# EAGLE library part CAT6612 (library JKW_CHIP)
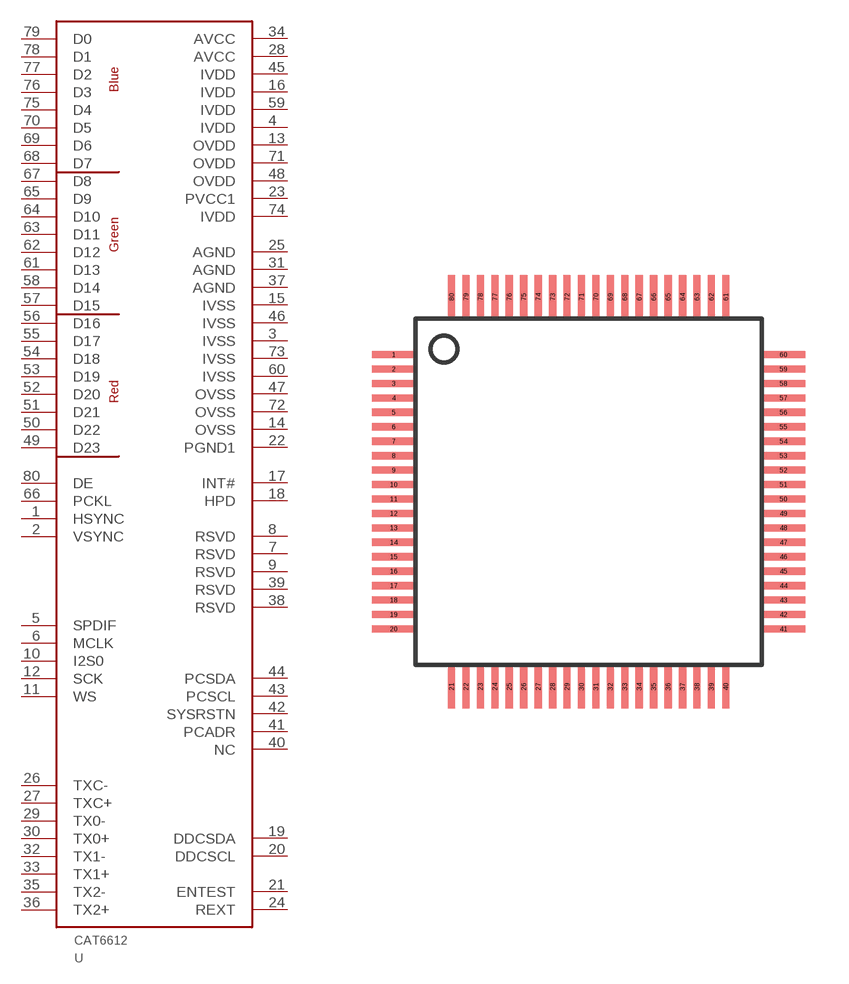
[diagram p8: symbol with the pads of LQFP-80; footprint LQFP-80]

Designator prefix -

## CAT6612  [LQFP-80]
1  HSYNC
2  VSYNC
3  IVSS
4  IVDD
5  SPDIF
6  MCLK
7  RSVD
8  RSVD
9  RSVD
10  I2S0
11  WS
12  SCK
13  OVDD
14  OVSS
15  IVSS
16  IVDD
17  INT#
18  HPD
19  DDCSDA
20  DDCSCL
21  ENTEST
22  PGND1
23  PVCC1
24  REXT
25  AGND
26  TXC-
27  TXC+
28  AVCC
29  TX0-
30  TX0+
31  AGND
32  TX1-
33  TX1+
34  AVCC
35  TX2-
36  TX2+
37  AGND
38  RSVD
39  RSVD
40  NC
41  PCADR
42  SYSRSTN
43  PCSCL
44  PCSDA
45  IVDD
46  IVSS
47  OVSS
48  OVDD
49  D23
50  D22
51  D21
52  D20
53  D19
54  D18
55  D17
56  D16
57  D15
58  D14
59  IVDD
60  IVSS
61  D13
62  D12
63  D11
64  D10
65  D9
66  PCKL
67  D8
68  D7
69  D6
70  D5
71  OVDD
72  OVSS
73  IVSS
74  IVDD
75  D4
76  D3
77  D2
78  D1
79  D0
80  DE

## Footprint LQFP-80 (pad centres in mm)
smd 1.5 x 0.25: 1 -6.75,4.75; 2 -6.75,4.25; 3 -6.75,3.75; 4 -6.75,3.25; 5 -6.75,2.75; 6 -6.75,2.25; 7 -6.75,1.75; 8 -6.75,1.25; 9 -6.75,0.75; 10 -6.75,0.25; 11 -6.75,-0.25; 12 -6.75,-0.75; 13 -6.75,-1.25; 14 -6.75,-1.75; 15 -6.75,-2.25; 16 -6.75,-2.75; 17 -6.75,-3.25; 18 -6.75,-3.75; 19 -6.75,-4.25; 20 -6.75,-4.75; 41 6.75,-4.75; 42 6.75,-4.25; 43 6.75,-3.75; 44 6.75,-3.25; 45 6.75,-2.75; 46 6.75,-2.25; 47 6.75,-1.75; 48 6.75,-1.25; 49 6.75,-0.75; 50 6.75,-0.25; 51 6.75,0.25; 52 6.75,0.75; 53 6.75,1.25; 54 6.75,1.75; 55 6.75,2.25; 56 6.75,2.75; 57 6.75,3.25; 58 6.75,3.75; 59 6.75,4.25; 60 6.75,4.75
smd 0.25 x 1.5: 21 -4.75,-6.75; 22 -4.25,-6.75; 23 -3.75,-6.75; 24 -3.25,-6.75; 25 -2.75,-6.75; 26 -2.25,-6.75; 27 -1.75,-6.75; 28 -1.25,-6.75; 29 -0.75,-6.75; 30 -0.25,-6.75; 31 0.25,-6.75; 32 0.75,-6.75; 33 1.25,-6.75; 34 1.75,-6.75; 35 2.25,-6.75; 36 2.75,-6.75; 37 3.25,-6.75; 38 3.75,-6.75; 39 4.25,-6.75; 40 4.75,-6.75; 61 4.75,6.75; 62 4.25,6.75; 63 3.75,6.75; 64 3.25,6.75; 65 2.75,6.75; 66 2.25,6.75; 67 1.75,6.75; 68 1.25,6.75; 69 0.75,6.75; 70 0.25,6.75; 71 -0.25,6.75; 72 -0.75,6.75; 73 -1.25,6.75; 74 -1.75,6.75; 75 -2.25,6.75; 76 -2.75,6.75; 77 -3.25,6.75; 78 -3.75,6.75; 79 -4.25,6.75; 80 -4.75,6.75